# EAGLE library part V2164 (library jason_eagle6)
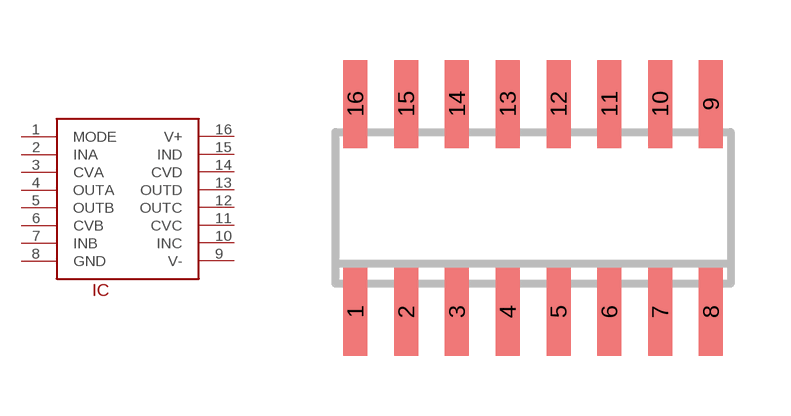
[diagram p18: symbol with the pads of SO16; footprint SO16]

Designator prefix IC

## V2164  [SO16]
1  MODE
2  INA
3  CVA
4  OUTA
5  OUTB
6  CVB
7  INB
8  GND
9  V-
10  INC
11  CVC
12  OUTC
13  OUTD
14  CVD
15  IND
16  V+

## Footprint SO16 (pad centres in mm)
SMALL OUTLINE INTEGRATED CIRCUIT body 3.9 mm/JEDEC MS-012AC
smd 0.6 x 2.2: 1 -4.445,-2.6; 2 -3.175,-2.6; 3 -1.905,-2.6; 4 -0.635,-2.6; 5 0.635,-2.6; 6 1.905,-2.6; 7 3.175,-2.6; 8 4.445,-2.6; 9 4.445,2.6; 10 3.175,2.6; 11 1.905,2.6; 12 0.635,2.6; 13 -0.635,2.6; 14 -1.905,2.6; 15 -3.175,2.6; 16 -4.445,2.6